# Altium schematic symbol library Heatsinks.SchLib: 6 symbols
Pins are listed as number, name and electrical type; pins without a type are passive.

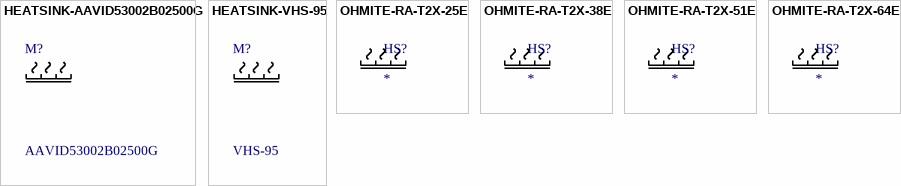
[diagram p0: symbols HEATSINK-AAVID53002B02500G to OHMITE-RA-T2X-64E]

## HEATSINK-AAVID53002B02500G
designator M?, comment AAVID53002B02500G
HEATSINK-AAVID53002B02500G
footprint AAVID53002B02500G

## HEATSINK-VHS-95
designator M?, comment VHS-95
footprint VHS-95 (HALF BRICK CONVERTER HEATSINK)

## OHMITE-RA-T2X-25E
designator HS?
HEATSINK; Supplier 1: Digi-Key; Supplier Part Number 1: RA-T2X-25E-ND
footprint OHMITE-RA-T2X-25E

## OHMITE-RA-T2X-38E
designator HS?
HEATSINK; Supplier 1: Digi-Key; Supplier Part Number 1: RA-T2X-38E-ND
footprint OHMITE-RA-T2X-38E

## OHMITE-RA-T2X-51E
designator HS?
HEATSINK; Supplier 1: Digi-Key; Supplier Part Number 1: RA-T2X-51E-ND
footprint OHMITE-RA-T2X-51E

## OHMITE-RA-T2X-64E
designator HS?
HEATSINK; Supplier 1: Digi-Key; Supplier Part Number 1: RA-T2X-64E-ND
footprint OHMITE-RA-T2X-64E